# EAGLE library part 19427 (library 911_circuits)
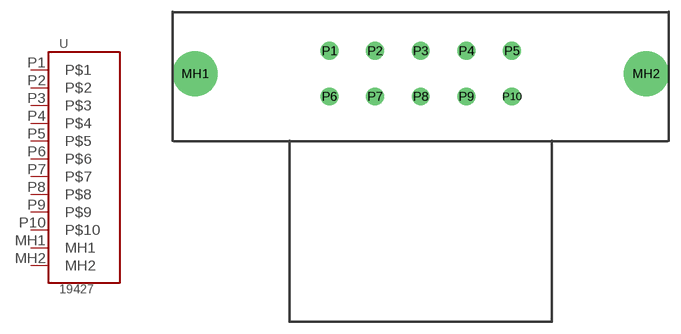
[diagram p1: symbol with the pads of 194270031; footprint 194270031]

Designator prefix -

## 19427-0031  [194270031]
MH1  MH1
MH2  MH2
P1  P$1
P2  P$2
P3  P$3
P4  P$4
P5  P$5
P6  P$6
P7  P$7
P8  P$8
P9  P$9
P10  P$10

## Footprint 194270031 (pad centres in mm)
drill 4.775: MH1 -28.88,0; MH2 28.88,0
drill 1.524: P1 -11.684,2.921; P2 -5.842,2.921; P3 0,2.921; P4 5.842,2.921; P5 11.684,2.921; P6 -11.684,-2.921; P7 -5.842,-2.921; P8 0,-2.921; P9 5.842,-2.921; P10 11.684,-2.921